# Altium footprint library AkronMacon_CE.PcbLib: 1 footprints
Each footprint in its own frame and in the unit in brackets; x right, y up, seen from the top. Pads: shape width x height; smd on the part's side, far side on the other; paste and mask are expansions set on the pad; w line width, h text height; cw(c..) or ccw(c..) is an arc to the next point about the centre after c.
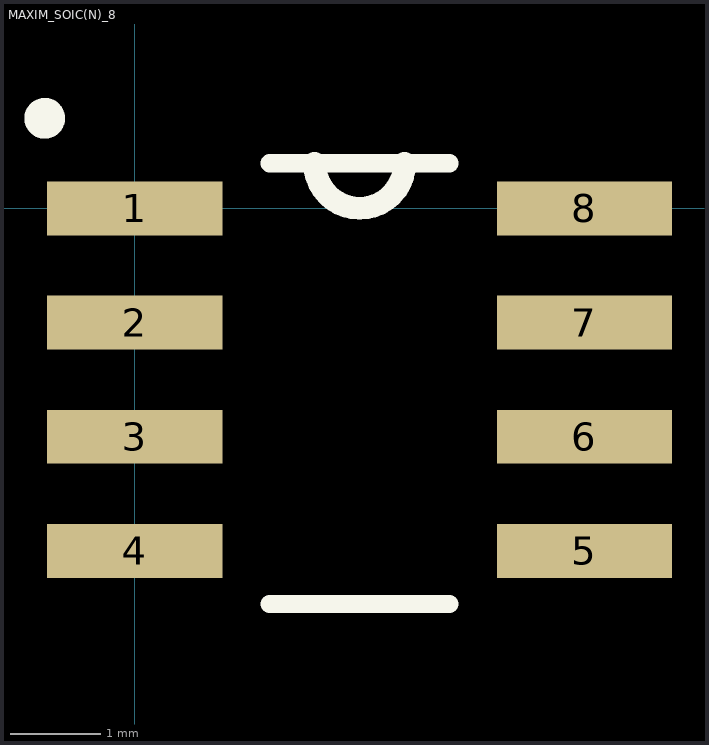
[diagram p0: the footprint, top view; thin cyan lines are the x and y axes]

## MAXIM_SOIC(N)_8 [mm] "Sourced from Maxim 90-0372revA https://pdfserv.maximintegrated.com/land_patterns/90-0372.PDF"
height 0.787
pads (8):
  rect 1.95x0.6 smd: 1(0,0) 2(0,-1.27) 3(0,-2.54) 4(0,-3.81) 5(5,-3.81) 6(5,-2.54) 7(5,-1.27) 8(5,0)
Top Overlay:
  circle w0.254: c-1,1 r0.1
  lines w0.203: 1.5,-4.4 3.5,-4.4 ; 1.5,0.5 3.5,0.5
  lines w0.254: 2,0.5 ccw(c2.5,0.5) 2.5,0 ccw(c2.5,0.5) 3,0.5
3D body: height 1.76, standoff 0, extent -0.599,-4.402 5.599,0.602